# Altium footprint library SnapEDApcb.PcbLib: 1 footprints
Each footprint in its own frame and in the unit in brackets; x right, y up, seen from the top. Pads: shape width x height; smd on the part's side, far side on the other; paste and mask are expansions set on the pad; w line width, h text height; cw(c..) or ccw(c..) is an arc to the next point about the centre after c.
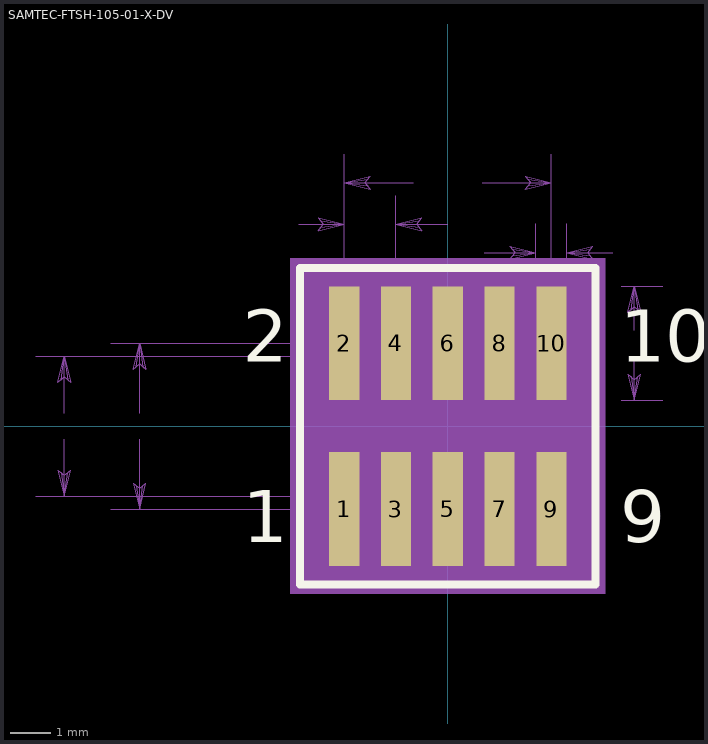
[diagram p0: the footprint, top view; thin cyan lines are the x and y axes]

## SAMTEC-FTSH-105-01-X-DV [mm]
pads (10):
  rect 0.74x2.79 smd mask+0: 1(-2.54,-2.032) 2(-2.54,2.032) 3(-1.27,-2.032) 4(-1.27,2.032) 5(0,-2.032) 6(0,2.032) 7(1.27,-2.032) 8(1.27,2.032) 9(2.54,-2.032) 10(2.54,2.032)
Top Overlay:
  lines w0.2: -3.625,-3.878 -3.625,3.878 3.625,3.878 3.625,-3.878 -3.625,-3.878
  text "1" at -5.031,-2.845 h1.27
  text "2" at -5.031,1.575 h1.27
  text "9" at 4.231,-2.845 h1.27
  text "10" at 4.231,1.575 h1.27
Top Paste:
  region: -2.17,-3.427 -2.91,-3.427 -2.91,-0.637 -2.17,-0.637
  region: -2.17,0.637 -2.91,0.637 -2.91,3.427 -2.17,3.427
  region: -0.9,-3.427 -1.64,-3.427 -1.64,-0.637 -0.9,-0.637
  region: -0.9,0.637 -1.64,0.637 -1.64,3.427 -0.9,3.427
  region: 0.37,-3.427 -0.37,-3.427 -0.37,-0.637 0.37,-0.637
  region: 0.37,0.637 -0.37,0.637 -0.37,3.427 0.37,3.427
  region: 1.64,-3.427 0.9,-3.427 0.9,-0.637 1.64,-0.637
  region: 1.64,0.637 0.9,0.637 0.9,3.427 1.64,3.427
  region: 2.91,-3.427 2.17,-3.427 2.17,-0.637 2.91,-0.637
  region: 2.91,0.637 2.17,0.637 2.17,3.427 2.91,3.427
Top Solder:
  region: -2.119,-3.478 -2.961,-3.478 -2.961,-0.586 -2.119,-0.586
  region: -2.119,0.586 -2.961,0.586 -2.961,3.478 -2.119,3.478
  region: -0.849,-3.478 -1.691,-3.478 -1.691,-0.586 -0.849,-0.586
  region: -0.849,0.586 -1.691,0.586 -1.691,3.478 -0.849,3.478
  region: 0.421,-3.478 -0.421,-3.478 -0.421,-0.586 0.421,-0.586
  region: 0.421,0.586 -0.421,0.586 -0.421,3.478 0.421,3.478
  region: 1.691,-3.478 0.849,-3.478 0.849,-0.586 1.691,-0.586
  region: 1.691,0.586 0.849,0.586 0.849,3.478 1.691,3.478
  region: 2.961,-3.478 2.119,-3.478 2.119,-0.586 2.961,-0.586
  region: 2.961,0.586 2.119,0.586 2.119,3.478 2.961,3.478
Mechanical 13:
  drawing of 245 lines, arcs and shapes, not listed
  text "3.429" at -10.058,-0.127 h0.25
  text "4.064" at -8.217,-0.127 h0.25
  text "1" at -5.031,-2.845 h1.27
  text "2" at -5.031,1.575 h1.27
  text "1.270" at -5.169,4.826 h0.25
  text "6.350" at -0.66,1.143 h0.25
  text "5.080" at -0.66,5.842 h0.25
  text "9" at 4.231,-2.845 h1.27
  text "10" at 4.231,1.575 h1.27
  text "2.794" at 3.912,1.905 h0.25
  text "0.762" at 4.229,4.128 h0.25
Mechanical 15:
  region: 3.86,-4.113 -3.86,-4.113 -3.86,4.113 3.86,4.113